# Altium schematic symbol library SamacSys.SchLib: 21 symbols
Pins are listed as number, name and electrical type; pins without a type are passive.

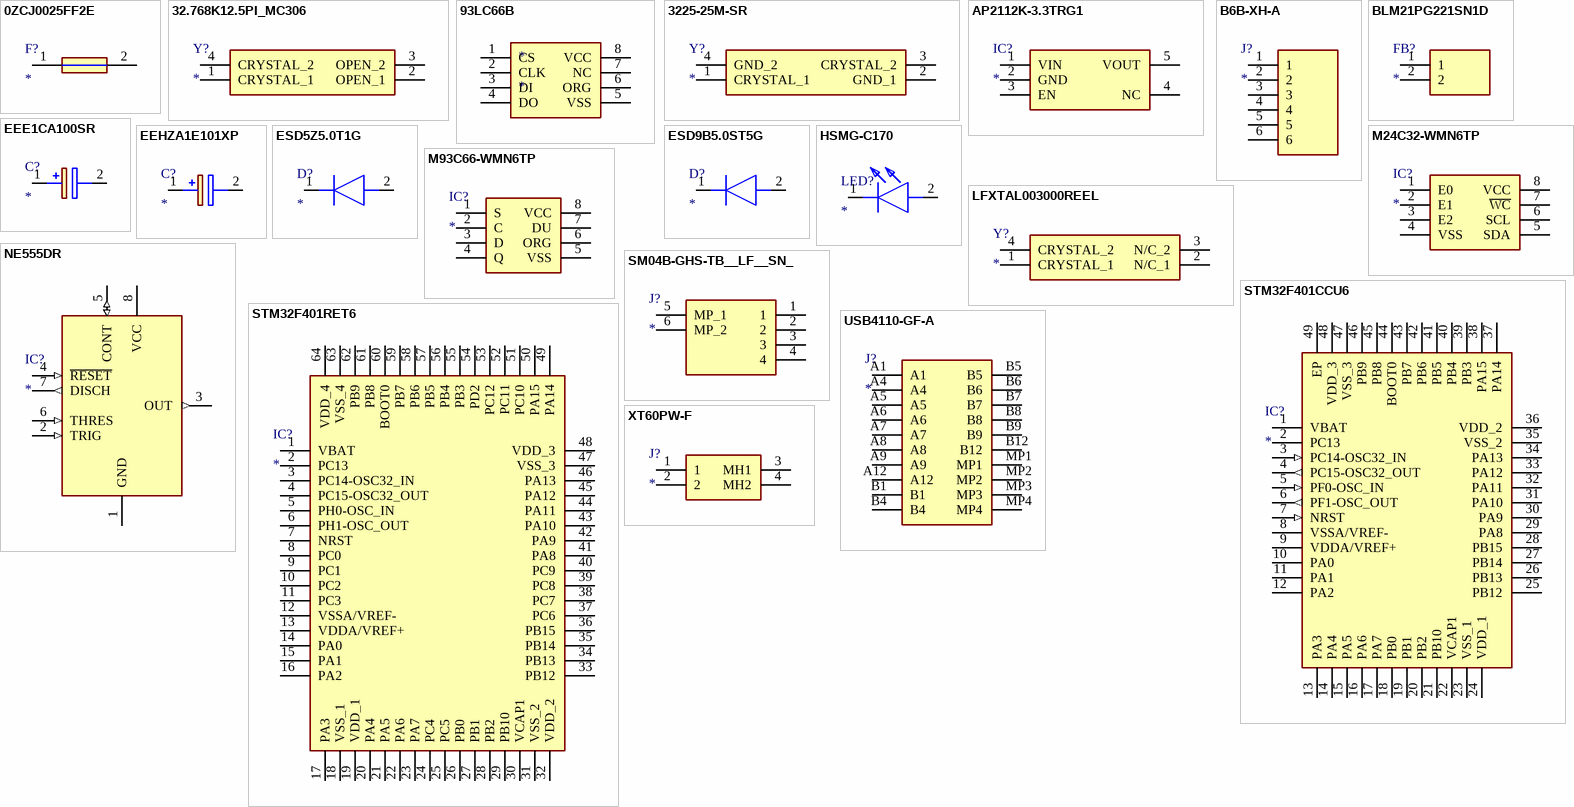
[diagram p0: symbols 0ZCJ0025FF2E to XT60PW-F]

## 0ZCJ0025FF2E
designator F?
Fuse; Manufacturer_Name: Bel Circuit Protection; Manufacturer_Part_Number: 0ZCJ0025FF2E; Datasheet Link: https://componentsearchengine.com/Datasheets/2/0ZCJ0025FF2E.pdf; Height: 0.75mm; Arrow Part Number: 0ZCJ0025FF2E; Arrow Price/Stock: https://www.arrow.com/en/products/0zcj0025ff2e/bel-group?region=nac
footprint FUSC3216X75N
pins: 1, 2

## 32.768K12.5PI_MC306
designator Y?
Crystal or Oscillator; Manufacturer_Name: YIC; Manufacturer_Part_Number: 32.768K12.5PI/MC306; Datasheet Link: https://www.yic.com.tw/wp-content/uploads/2022/12/YIC-MC306-SM38A-SM26B-SM26BSP-Series.pdf; Height: 2.5mm
footprint 32768K125PIMC306
pins: 1 CRYSTAL_1, 2 OPEN_1, 3 OPEN_2, 4 CRYSTAL_2

## 93LC66B
designator *
footprint SOIC127P600X175-8N
pins: 1 CS, 2 CLK, 3 DI, 4 DO, 5 VSS, 6 ORG, 7 NC, 8 VCC

## 3225-25M-SR
designator Y?
Crystal or Oscillator; Manufacturer_Name: SRPASSIVES; Manufacturer_Part_Number: 3225-25M-SR; Datasheet Link: https://www.tme.eu/Document/9cb2d0edad968d8543e7bc99995fd180/3235.pdf; Height: 0.7mm
footprint 322525MSR
pins: 1 CRYSTAL_1, 2 GND_1, 3 CRYSTAL_2, 4 GND_2

## AP2112K-3.3TRG1
designator IC?
Integrated Circuit; Manufacturer_Name: Diodes Incorporated; Manufacturer_Part_Number: AP2112K-3.3TRG1; Datasheet Link: https://www.diodes.com//assets/Datasheets/AP2112.pdf; Height: 1.4mm; Mouser Part Number: 621-AP2112K-3.3TRG1; Mouser Price/Stock: https://www.mouser.co.uk/ProductDetail/Diodes-Incorporated/AP2112K-3.3TRG1?qs=x6A8l6qLYDDPYHosCdzh%2FA%3D%3D; Arrow Part Number: AP2112K-3.3TRG1; Arrow Price/Stock: https://www.arrow.com/en/products/ap2112k-3.3trg1/diodes-incorporated?utm_currency=USD&region=nac
footprint SOT95P285X140-5N
pins: 1 VIN, 2 GND, 3 EN, 4 NC, 5 VOUT

## B6B-XH-A
designator J?
Connector; Manufacturer_Name: JST (JAPAN SOLDERLESS TERMINALS); Manufacturer_Part_Number: B6B-XH-A; Datasheet Link: https://www.jst.com/wp-content/uploads/2021/01/eXH-new.pdf; Height: 7mm
footprint B6BXHA
pins: 1, 2, 3, 4, 5, 6

## BLM21PG221SN1D
designator FB?
Ferrite Bead; Manufacturer_Name: Murata Electronics; Manufacturer_Part_Number: BLM21PG221SN1D; Datasheet Link: https://datasheet.datasheetarchive.com/originals/dk/DKDS-31/605570.pdf; Height: 1.05mm; Mouser Part Number: 81-BLM21P221SG; Mouser Price/Stock: https://www.mouser.co.uk/ProductDetail/Murata-Electronics/BLM21PG221SN1D?qs=N%2FLoXOA9PTJ4i6RHFrsqmw%3D%3D; Arrow Part Number: BLM21PG221SN1D; Arrow Price/Stock: https://www.arrow.com/en/products/blm21pg221sn1d/murata-manufacturing?utm_currency=USD&region=europe
footprint BEADC2012X105N
pins: 1, 2

## EEE1CA100SR
designator C?
Capacitor Polarised; Manufacturer_Name: Panasonic; Manufacturer_Part_Number: EEE1CA100SR; Datasheet Link: http://industrial.panasonic.com/cdbs/www-data/pdf/RDE0000/ABA0000C1145.pdf; Height: 5.5mm; Arrow Part Number: EEE1CA100SR; Arrow Price/Stock: https://www.arrow.com/en/products/eee-1ca100sr/panasonic
footprint EEE1AA220WR
pins: 1 +, 2 -

## EEHZA1E101XP
designator C?
Capacitor Polarised; Manufacturer_Name: Panasonic; Manufacturer_Part_Number: EEHZA1E101XP; Datasheet Link: http://industrial.panasonic.com/cdbs/www-data/pdf/RDD0000/ABA0000C1221.pdf; Height: 8.3mm; Arrow Part Number: EEHZA1E101XP; Arrow Price/Stock: https://www.arrow.com/en/products/eehza1e101xp/panasonic?utm_currency=USD&region=nac
footprint EEHZA1E101XP
pins: 1 +, 2 -

## ESD5Z5.0T1G
designator D?
Diode; Manufacturer_Name: onsemi; Manufacturer_Part_Number: ESD5Z5.0T1G; Datasheet Link: https://www.onsemi.com/pub/Collateral/ESD5Z2.5T1-D.PDF; Height: 0.7mm; Mouser Part Number: 863-ESD5Z5.0T1G; Mouser Price/Stock: https://www.mouser.co.uk/ProductDetail/onsemi/ESD5Z5.0T1G?qs=OSf9jACorvYw3fDx1S8P6A%3D%3D; Arrow Part Number: ESD5Z5.0T1G; Arrow Price/Stock: https://www.arrow.com/en/products/esd5z5.0t1g/on-semiconductor?utm_currency=USD&region=nac
footprint SODFL1608X70N
pins: 1 K, 2 A

## ESD9B5.0ST5G
designator D?
Diode; Manufacturer_Name: onsemi; Manufacturer_Part_Number: ESD9B5.0ST5G; Datasheet Link: https://www.onsemi.com/pub/Collateral/ESD9B-D.PDF; Height: 0.4mm; Mouser Part Number: 863-ESD9B5.0ST5G; Mouser Price/Stock: https://www.mouser.co.uk/ProductDetail/onsemi/ESD9B5.0ST5G?qs=HL4IEvuNMQqfrGPZiLZXfQ%3D%3D; Arrow Part Number: ESD9B5.0ST5G; Arrow Price/Stock: https://www.arrow.com/en/products/esd9b5.0st5g/on-semiconductor?region=nac
footprint SODFL1006X40N
pins: 1 K, 2 A

## HSMG-C170
designator LED?
LED; Manufacturer_Name: Avago Technologies; Manufacturer_Part_Number: HSMG-C170; Datasheet Link: https://datasheet.datasheetarchive.com/originals/distributors/SFDatasheet-4/sf-00083853.pdf; Height: 0.8mm; Mouser Part Number: 630-HSMG-C170; Mouser Price/Stock: https://www.mouser.co.uk/ProductDetail/Broadcom-Avago/HSMG-C170?qs=YDL0qNrpDT4lm8ArMPkMEA%3D%3D
footprint LEDC2012X80N
pins: 1 K, 2 A

## LFXTAL003000REEL
designator Y?
Crystal or Oscillator; Manufacturer_Name: IQD; Manufacturer_Part_Number: LFXTAL003000REEL; Datasheet Link: https://www.iqdfrequencyproducts.com/products/pn/LFXTAL003000.pdf; Height: 2.5mm; Mouser Part Number: 449-LFXTAL003000REEL; Mouser Price/Stock: https://www.mouser.co.uk/ProductDetail/IQD/LFXTAL003000Reel?qs=GJ%2F2ZGcr5uOHwN9t8Hha8Q%3D%3D; Arrow Part Number: LFXTAL003000REEL; Arrow Price/Stock: https://www.arrow.com/en/products/lfxtal003000reel/iqd-frequency-products?region=europe
footprint LFXTAL003000REEL
pins: 1 CRYSTAL_1, 2 N/C_1, 3 N/C_2, 4 CRYSTAL_2

## M24C32-WMN6TP
designator IC?
Integrated Circuit; Manufacturer_Name: STMicroelectronics; Manufacturer_Part_Number: M24C32-WMN6TP; Datasheet Link: http://www.st.com/st-web-ui/static/active/en/resource/technical/document/datasheet/CD00001012.pdf; Height: 1.75mm; Mouser Part Number: 511-M24C32-WMN6TP; Mouser Price/Stock: https://www.mouser.co.uk/ProductDetail/STMicroelectronics/M24C32-WMN6TP?qs=%252B9pWl1iD4MWFKTqSdEAgrw%3D%3D; Arrow Part Number: M24C32-WMN6TP; Arrow Price/Stock: https://www.arrow.com/en/products/m24c32-wmn6tp/stmicroelectronics?region=nac
footprint SOIC127P600X175-8N
pins: 1 E0, 2 E1, 3 E2, 4 VSS, 5 SDA, 6 SCL, 7 ~{WC}, 8 VCC

## M93C66-WMN6TP
designator IC?
Integrated Circuit; Manufacturer_Name: STMicroelectronics; Manufacturer_Part_Number: M93C66-WMN6TP; Datasheet Link: http://www.st.com/st-web-ui/static/active/en/resource/technical/document/datasheet/CD00001142.pdf; Height: 1.75mm; Mouser Part Number: 511-M93C66-WMN6TP; Mouser Price/Stock: https://www.mouser.co.uk/ProductDetail/STMicroelectronics/M93C66-WMN6TP?qs=OMlU9E68qqQmdZ2%252BtP%2FZLw%3D%3D; Arrow Part Number: M93C66-WMN6TP; Arrow Price/Stock: https://www.arrow.com/en/products/m93c66-wmn6tp/stmicroelectronics
footprint SOIC127P600X175-8N
pins: 1 S, 2 C, 3 D, 4 Q, 5 VSS, 6 ORG, 7 DU, 8 VCC

## NE555DR
designator IC?
Integrated Circuit; Manufacturer_Name: Texas Instruments; Manufacturer_Part_Number: NE555DR; Datasheet Link: http://www.ti.com/lit/ds/symlink/ne555.pdf; Height: 1.75mm; Mouser Part Number: 595-NE555DR; Mouser Price/Stock: https://www.mouser.com/Search/Refine.aspx?Keyword=595-NE555DR; RS Part Number: 1218414; RS Price/Stock: http://uk.rs-online.com/web/p/products/1218414
footprint SOIC127P600X175-8N
pins: 1 GND (power), 2 TRIG (in), 3 OUT (out), 4 ~{RESET} (in), 5 CONT (io), 6 THRES (in), 7 DISCH (out), 8 VCC (power)

## SM04B-GHS-TB__LF__SN_
designator J?
Connector; Manufacturer_Name: JST (JAPAN SOLDERLESS TERMINALS); Manufacturer_Part_Number: SM04B-GHS-TB (LF)(SN); Datasheet Link: https://www.jst-mfg.com/product/pdf/eng/eGH.pdf?688ae3895614e; Height: 4.35mm; Arrow Part Number: SM04B-GHS-TB (LF)(SN); Arrow Price/Stock: https://www.arrow.com/en/products/sm04b-ghs-tb-lf-sn-/jst-manufacturing?utm_currency=USD&region=europe
footprint SM04BGHSTBLFSN
pins: 1, 2, 3, 4, 5 MP_1, 6 MP_2

## STM32F401CCU6
designator IC?
Integrated Circuit; Manufacturer_Name: STMicroelectronics; Manufacturer_Part_Number: STM32F401CCU6; Datasheet Link: http://www.st.com/web/en/resource/technical/document/datasheet/DM00086815.pdf; Height: 0.6mm; Mouser Part Number: 511-STM32F401CCU6; Mouser Price/Stock: https://www.mouser.co.uk/ProductDetail/STMicroelectronics/STM32F401CCU6?qs=DqCdCwOw4%2F5VrOZQxO795A%3D%3D; Arrow Part Number: STM32F401CCU6; Arrow Price/Stock: null?region=nac
footprint QFN50P700X700X60-49N-D
pins: 1 VBAT, 2 PC13, 3 PC14-OSC32_IN (in), 4 PC15-OSC32_OUT (out), 5 PF0-OSC_IN (in), 6 PF1-OSC_OUT (out), 7 NRST (in), 8 VSSA/VREF- (power), 9 VDDA/VREF+ (power), 10 PA0, 11 PA1, 12 PA2, 13 PA3, 14 PA4, 15 PA5, 16 PA6, 17 PA7, 18 PB0, 19 PB1, 20 PB2, 21 PB10, 22 VCAP1, 23 VSS_1 (power), 24 VDD_1 (power), 25 PB12, 26 PB13, 27 PB14, 28 PB15, 29 PA8, 30 PA9, 31 PA10, 32 PA11, 33 PA12, 34 PA13, 35 VSS_2 (power), 36 VDD_2 (power), 37 PA14, 38 PA15, 39 PB3, 40 PB4, 41 PB5, 42 PB6, 43 PB7, 44 BOOT0, 45 PB8, 46 PB9, 47 VSS_3 (power), 48 VDD_3 (power), 49 EP

## STM32F401RET6
designator IC?
Integrated Circuit; Manufacturer_Name: STMicroelectronics; Manufacturer_Part_Number: STM32F401RET6; Description: ARM Cortex-M4 32b MCU+FPU; Datasheet Link: http://www.st.com/st-web-ui/static/active/en/resource/technical/document/datasheet/DM00102166.pdf; Height: 1.6mm; Mouser Part Number: 511-STM32F401RET6; Mouser Price/Stock: https://www.mouser.co.uk/ProductDetail/STMicroelectronics/STM32F401RET6?qs=s5SkPsIz108eLldhTu8INg%3D%3D; Arrow Part Number: STM32F401RET6; Arrow Price/Stock: https://www.arrow.com/en/products/stm32f401ret6/stmicroelectronics?utm_currency=USD&region=nac
footprint QFP50P1200X1200X160-64N
pins: 1 VBAT, 2 PC13, 3 PC14-OSC32_IN, 4 PC15-OSC32_OUT, 5 PH0-OSC_IN, 6 PH1-OSC_OUT, 7 NRST, 8 PC0, 9 PC1, 10 PC2, 11 PC3, 12 VSSA/VREF-, 13 VDDA/VREF+, 14 PA0, 15 PA1, 16 PA2, 17 PA3, 18 VSS_1, 19 VDD_1, 20 PA4, 21 PA5, 22 PA6, 23 PA7, 24 PC4, 25 PC5, 26 PB0, 27 PB1, 28 PB2, 29 PB10, 30 VCAP1, 31 VSS_2, 32 VDD_2, 33 PB12, 34 PB13, 35 PB14, 36 PB15, 37 PC6, 38 PC7, 39 PC8, 40 PC9, 41 PA8, 42 PA9, 43 PA10, 44 PA11, 45 PA12, 46 PA13, 47 VSS_3, 48 VDD_3, 49 PA14, 50 PA15, 51 PC10, 52 PC11, 53 PC12, 54 PD2, 55 PB3, 56 PB4, 57 PB5, 58 PB6, 59 PB7, 60 BOOT0, 61 PB8, 62 PB9, 63 VSS_4, 64 VDD_4

## USB4110-GF-A
designator J?
Connector; Manufacturer_Name: GCT (GLOBAL CONNECTOR TECHNOLOGY); Manufacturer_Part_Number: USB4110-GF-A; Datasheet Link: https://gct.co/files/drawings/usb4110.pdf; Height: 3.26mm; Mouser Part Number: 640-USB4110-GF-A; Mouser Price/Stock: https://www.mouser.co.uk/ProductDetail/GCT/USB4110-GF-A?qs=KUoIvG%2F9IlYiZvIXQjyJeA%3D%3D
footprint USB4110GFA
pins: A1, A4, A5, A6, A7, A8, A9, A12, B1, B4, B5, B6, B7, B8, B9, B12, MP1, MP2, MP3, MP4

## XT60PW-F
designator J?
Connector; Manufacturer_Name: Amass; Manufacturer_Part_Number: XT60PW-F; Datasheet Link: https://www.tme.eu/Document/1191bc2fa3aee3c446e5a895fd8f7983/XT60PW-F.pdf; Height: 8.4mm
footprint XT60PWF
pins: 1, 2, 3 MH1, 4 MH2